# Altium schematic symbol library Schlib1.SchLib: 3 symbols
Pins are listed as number, name and electrical type; pins without a type are passive.

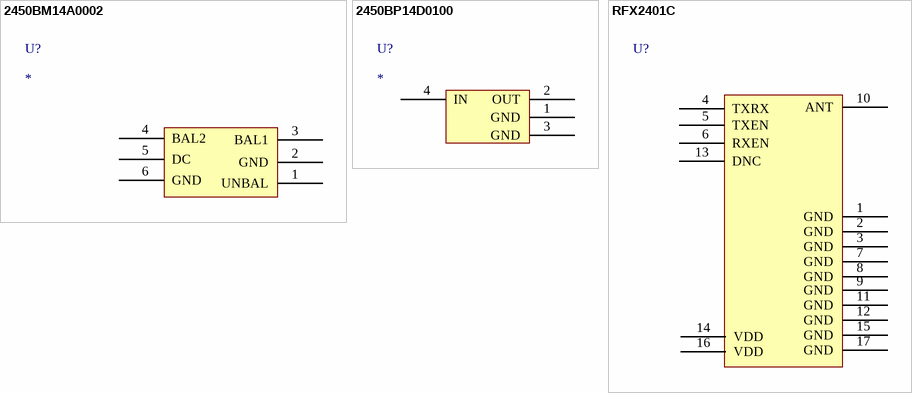
[diagram p0: symbols 2450BM14A0002 to RFX2401C]

## 2450BM14A0002
designator U?
pins: 1 UNBAL, 2 GND, 3 BAL1, 4 BAL2, 5 DC, 6 GND

## 2450BP14D0100
designator U?
pins: 1 GND, 2 OUT, 3 GND, 4 IN

## RFX2401C
designator U?
pins: 1 GND, 2 GND, 3 GND, 4 TXRX, 5 TXEN, 6 RXEN, 7 GND, 8 GND, 9 GND, 10 ANT, 11 GND, 12 GND, 13 DNC, 14 VDD, 15 GND, 16 VDD, 17 GND